# EAGLE library part CNHDR020F1-1 (library Traficon)
20 pins Socket 2x10 - 2mm - Low Profile
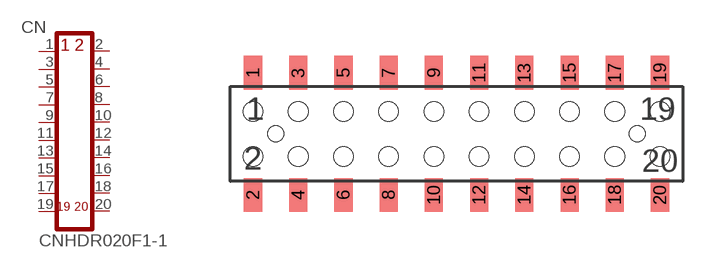
[diagram p21: symbol with the pads of 2MMDILSMT/2; footprint 2MMDILSMT/2]

Designator prefix CN

## CNHDR020F1-1  [2MMDILSMT/2]
1  1  pas
2  2  pas
3  3  pas
4  4  pas
5  5  pas
6  6  pas
7  7  pas
8  8  pas
9  9  pas
10  10  pas
11  11  pas
12  12  pas
13  13  pas
14  14  pas
15  15  pas
16  16  pas
17  17  pas
18  18  pas
19  19  pas
20  20  pas

## Footprint 2MMDILSMT/2 (pad centres in mm)
smd 0.8 x 1.5: 1 -9,2.7; 2 -9,-2.7; 3 -7,2.7; 4 -7,-2.7; 5 -5,2.7; 6 -5,-2.7; 7 -3,2.7; 8 -3,-2.7; 9 -1,2.7; 10 -1,-2.7; 11 1,2.7; 12 1,-2.7; 13 3,2.7; 14 3,-2.7; 15 5,2.7; 16 5,-2.7; 17 7,2.7; 18 7,-2.7; 19 9,2.7; 20 9,-2.7
hole 0.86 at -9,1
hole 0.86 at -7,1
hole 0.86 at -5,1
hole 0.86 at -3,1
hole 0.86 at -1,1
hole 0.86 at 1,1
hole 0.86 at 3,1
hole 0.86 at 5,1
hole 0.86 at 7,1
hole 0.86 at 9,1
hole 0.86 at 9,-1
hole 0.86 at 7,-1
hole 0.86 at 5,-1
hole 0.86 at 3,-1
hole 0.86 at 1,-1
hole 0.86 at -1,-1
hole 0.86 at -3,-1
hole 0.86 at -5,-1
hole 0.86 at -7,-1
hole 0.86 at -9,-1
hole 0.7 at -8,0
hole 0.7 at 8,0